# Altium footprint library Cypress.PcbLib: 1 footprints
Each footprint in its own frame and in the unit in brackets; x right, y up, seen from the top. Pads: shape width x height; smd on the part's side, far side on the other; paste and mask are expansions set on the pad; w line width, h text height; cw(c..) or ccw(c..) is an arc to the next point about the centre after c.
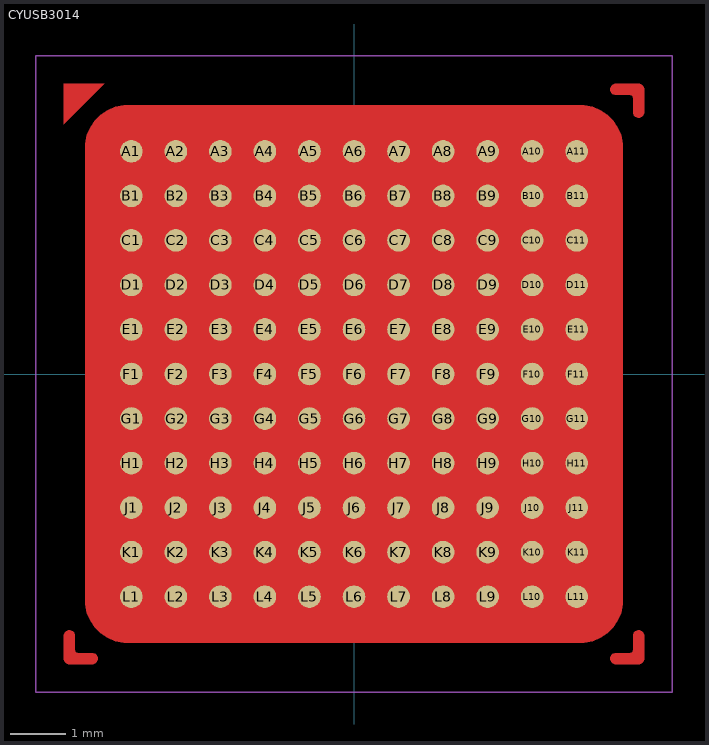
[diagram p0: the footprint, top view; thin cyan lines are the x and y axes]

## CYUSB3014 [mil]
height 47.24
pads (121):
  round 16 smd mask+1.5: A1(-157.48,157.48) A2(-125.98,157.48) A3(-94.49,157.48) A4(-62.99,157.48) A5(-31.5,157.48) A6(0,157.48) A7(31.5,157.48) A8(62.99,157.48) A9(94.49,157.48) A10(125.98,157.48) A11(157.48,157.48) B1(-157.48,125.98) B2(-125.98,125.98) B3(-94.49,125.98) B4(-62.99,125.98) B5(-31.5,125.98) B6(0,125.98) B7(31.5,125.98) B8(62.99,125.98) B9(94.49,125.98) B10(125.98,125.98) B11(157.48,125.98) C1(-157.48,94.49) C2(-125.98,94.49) C3(-94.49,94.49) C4(-62.99,94.49) C5(-31.5,94.49) C6(0,94.49) C7(31.5,94.49) C8(62.99,94.49) C9(94.49,94.49) C10(125.98,94.49) C11(157.48,94.49) D1(-157.48,62.99) D2(-125.98,62.99) D3(-94.49,62.99) D4(-62.99,62.99) D5(-31.5,62.99) D6(0,62.99) D7(31.5,62.99) D8(62.99,62.99) D9(94.49,62.99) D10(125.98,62.99) D11(157.48,62.99) E1(-157.48,31.5) E2(-125.98,31.5) E3(-94.49,31.5) E4(-62.99,31.5) E5(-31.5,31.5) E6(0,31.5) E7(31.5,31.5) E8(62.99,31.5) E9(94.49,31.5) E10(125.98,31.5) E11(157.48,31.5) F1(-157.48,0) F2(-125.98,0) F3(-94.49,0) F4(-62.99,0) F5(-31.5,0) F6(0,0) F7(31.5,0) F8(62.99,0) F9(94.49,0) F10(125.98,0) F11(157.48,0) G1(-157.48,-31.5) G2(-125.98,-31.5) G3(-94.49,-31.5) G4(-62.99,-31.5) G5(-31.5,-31.5) G6(0,-31.5) G7(31.5,-31.5) G8(62.99,-31.5) G9(94.49,-31.5) G10(125.98,-31.5) G11(157.48,-31.5) H1(-157.48,-62.99) H2(-125.98,-62.99) H3(-94.49,-62.99) H4(-62.99,-62.99) H5(-31.5,-62.99) H6(0,-62.99) H7(31.5,-62.99) H8(62.99,-62.99) H9(94.49,-62.99) H10(125.98,-62.99) H11(157.48,-62.99) J1(-157.48,-94.49) J2(-125.98,-94.49) J3(-94.49,-94.49) J4(-62.99,-94.49) J5(-31.5,-94.49) J6(0,-94.49) J7(31.5,-94.49) J8(62.99,-94.49) J9(94.49,-94.49) J10(125.98,-94.49) J11(157.48,-94.49) K1(-157.48,-125.98) K2(-125.98,-125.98) K3(-94.49,-125.98) K4(-62.99,-125.98) K5(-31.5,-125.98) K6(0,-125.98) K7(31.5,-125.98) K8(62.99,-125.98) K9(94.49,-125.98) K10(125.98,-125.98) K11(157.48,-125.98) L1(-157.48,-157.48) L2(-125.98,-157.48) L3(-94.49,-157.48) L4(-62.99,-157.48) L5(-31.5,-157.48) L6(0,-157.48) L7(31.5,-157.48) L8(62.99,-157.48) L9(94.49,-157.48) L10(125.98,-157.48) L11(157.48,-157.48)
Top Layer:
  pour cut-out: -160,190 -162.95,190 -168.75,188.85 -174.21,186.59 -179.12,183.3 -183.3,179.12 -186.59,174.21 -188.85,168.75 -190,162.95 -190,160 -190,-160 -190,-162.95 -188.85,-168.75 -186.59,-174.21 -183.3,-179.12 -179.12,-183.3 -174.21,-186.59 -168.75,-188.85 -162.95,-190 -160,-190 160,-190 162.95,-190 168.75,-188.85 174.21,-186.59 179.12,-183.3 183.3,-179.12 186.59,-174.21 188.85,-168.75 190,-162.95 190,-160 190,160 190,162.95 188.85,168.75 186.59,174.21 183.3,179.12 179.12,183.3 174.21,186.59 168.75,188.85 162.95,190 160,190
  region: 197.31,185.31 197.31,184.52 197.92,183.05 199.05,181.92 200.52,181.31 201.31,181.31 202.11,181.31 203.58,181.92 204.71,183.05 205.31,184.52 205.31,185.31 205.31,201.31 205.31,202.11 204.71,203.58 203.58,204.71 202.11,205.31 201.31,205.31 185.31,205.31 184.52,205.31 183.05,204.71 181.92,203.58 181.31,202.11 181.31,201.31 181.31,200.52 181.92,199.05 183.05,197.92 184.52,197.31 185.31,197.31 195.31,197.31 195.7,197.28 196.43,196.98 196.98,196.43 197.28,195.71 197.31,195.31
  region: -197.31,-185.32 -197.31,-184.52 -197.92,-183.05 -199.05,-181.92 -200.52,-181.32 -201.31,-181.32 -202.11,-181.32 -203.58,-181.92 -204.71,-183.05 -205.31,-184.52 -205.31,-185.32 -205.31,-201.32 -205.31,-202.11 -204.71,-203.58 -203.58,-204.71 -202.11,-205.32 -201.31,-205.32 -185.31,-205.32 -184.52,-205.32 -183.05,-204.71 -181.92,-203.58 -181.31,-202.11 -181.31,-201.32 -181.31,-200.52 -181.92,-199.05 -183.05,-197.92 -184.52,-197.32 -185.31,-197.32 -195.31,-197.32 -195.7,-197.28 -196.43,-196.98 -196.98,-196.43 -197.28,-195.71 -197.31,-195.32
  region: 185.32,-197.31 184.52,-197.31 183.05,-197.92 181.92,-199.05 181.32,-200.52 181.32,-201.31 181.32,-202.11 181.92,-203.58 183.05,-204.71 184.52,-205.31 185.32,-205.31 201.32,-205.31 202.11,-205.31 203.58,-204.71 204.71,-203.58 205.32,-202.11 205.32,-201.31 205.32,-185.31 205.32,-184.52 204.71,-183.05 203.58,-181.92 202.11,-181.31 201.32,-181.31 200.52,-181.31 199.05,-181.92 197.92,-183.05 197.32,-184.52 197.32,-185.31 197.32,-195.31 197.28,-195.7 196.98,-196.43 196.43,-196.98 195.71,-197.28 195.32,-197.31
  region: -205.31,205.31 -205.31,176.77 -176.77,205.32
Top Designator:
  text ".Designator" at -127.64,-12.5 h35
Top Courtyard:
  lines w1: -225,-225 -225,225 225,225
Top Component Outline:
  lines w1: -225,-225 225,-225 225,225
3D body: height 43.31, standoff 7.87, extent -196.85,-196.85 196.85,196.85
3D body: height 16.84, standoff -2.84, extent -167.28,147.75 -147.68,167.33
3D body: height 16.84, standoff -2.84, extent -167.28,116.25 -147.68,135.83
3D body: height 16.84, standoff -2.84, extent -167.28,84.75 -147.68,104.34
3D body: height 16.84, standoff -2.84, extent -167.28,53.26 -147.68,72.84
3D body: height 16.84, standoff -2.84, extent -167.28,-72.73 -147.68,-53.14
3D body: height 16.84, standoff -2.84, extent -167.28,-41.23 -147.68,-21.65
3D body: height 16.84, standoff -2.84, extent -167.28,-9.73 -147.68,9.85
3D body: height 16.84, standoff -2.84, extent -167.28,21.76 -147.68,41.35
3D body: height 16.84, standoff -2.84, extent -167.28,-167.21 -147.68,-147.63
3D body: height 16.84, standoff -2.84, extent -167.28,-135.72 -147.68,-116.13
3D body: height 16.84, standoff -2.84, extent -167.28,-104.22 -147.68,-84.64
3D body: height 16.84, standoff -2.84, extent -135.79,147.75 -116.19,167.33
3D body: height 16.84, standoff -2.84, extent -135.79,116.25 -116.19,135.83
3D body: height 16.84, standoff -2.84, extent -135.79,84.75 -116.19,104.34
3D body: height 16.84, standoff -2.84, extent -135.79,53.26 -116.19,72.84
3D body: height 16.84, standoff -2.84, extent -135.79,-72.73 -116.19,-53.14
3D body: height 16.84, standoff -2.84, extent -135.79,-41.23 -116.19,-21.65
3D body: height 16.84, standoff -2.84, extent -135.79,-9.73 -116.19,9.85
3D body: height 16.84, standoff -2.84, extent -135.79,21.76 -116.19,41.35
3D body: height 16.84, standoff -2.84, extent -135.79,-167.21 -116.19,-147.63
3D body: height 16.84, standoff -2.84, extent -135.79,-135.72 -116.19,-116.13
3D body: height 16.84, standoff -2.84, extent -135.79,-104.22 -116.19,-84.64
3D body: height 16.84, standoff -2.84, extent -104.29,147.75 -84.69,167.33
3D body: height 16.84, standoff -2.84, extent -104.29,116.25 -84.69,135.83
3D body: height 16.84, standoff -2.84, extent -104.29,84.75 -84.69,104.34
3D body: height 16.84, standoff -2.84, extent -104.29,53.26 -84.69,72.84
3D body: height 16.84, standoff -2.84, extent -104.29,-72.73 -84.69,-53.14
3D body: height 16.84, standoff -2.84, extent -104.29,-41.23 -84.69,-21.65
3D body: height 16.84, standoff -2.84, extent -104.29,-9.73 -84.69,9.85
3D body: height 16.84, standoff -2.84, extent -104.29,21.76 -84.69,41.35
3D body: height 16.84, standoff -2.84, extent -104.29,-167.21 -84.69,-147.63
3D body: height 16.84, standoff -2.84, extent -104.29,-135.72 -84.69,-116.13
3D body: height 16.84, standoff -2.84, extent -104.29,-104.22 -84.69,-84.64
3D body: height 16.84, standoff -2.84, extent -72.8,147.75 -53.19,167.33
3D body: height 16.84, standoff -2.84, extent -72.8,116.25 -53.19,135.83
3D body: height 16.84, standoff -2.84, extent -72.8,84.75 -53.19,104.34
3D body: height 16.84, standoff -2.84, extent -72.8,53.26 -53.19,72.84
3D body: height 16.84, standoff -2.84, extent -72.8,-72.73 -53.19,-53.14
3D body: height 16.84, standoff -2.84, extent -72.8,-41.23 -53.19,-21.65
3D body: height 16.84, standoff -2.84, extent -72.8,-9.73 -53.19,9.85
3D body: height 16.84, standoff -2.84, extent -72.8,21.76 -53.19,41.35
3D body: height 16.84, standoff -2.84, extent -72.8,-167.21 -53.19,-147.63
3D body: height 16.84, standoff -2.84, extent -72.8,-135.72 -53.19,-116.13
3D body: height 16.84, standoff -2.84, extent -72.8,-104.22 -53.19,-84.64
3D body: height 16.84, standoff -2.84, extent -41.3,147.75 -21.7,167.33
3D body: height 16.84, standoff -2.84, extent -41.3,116.25 -21.7,135.83
3D body: height 16.84, standoff -2.84, extent -41.3,84.75 -21.7,104.34
3D body: height 16.84, standoff -2.84, extent -41.3,53.26 -21.7,72.84
3D body: height 16.84, standoff -2.84, extent -41.3,-72.73 -21.7,-53.14
3D body: height 16.84, standoff -2.84, extent -41.3,-41.23 -21.7,-21.65
3D body: height 16.84, standoff -2.84, extent -41.3,-9.73 -21.7,9.85
3D body: height 16.84, standoff -2.84, extent -41.3,21.76 -21.7,41.35
3D body: height 16.84, standoff -2.84, extent -41.3,-167.21 -21.7,-147.63
3D body: height 16.84, standoff -2.84, extent -41.3,-135.72 -21.7,-116.13
3D body: height 16.84, standoff -2.84, extent -41.3,-104.22 -21.7,-84.64
3D body: height 16.84, standoff -2.84, extent -9.8,147.75 9.8,167.33
3D body: height 16.84, standoff -2.84, extent -9.8,116.25 9.8,135.83
3D body: height 16.84, standoff -2.84, extent -9.8,84.75 9.8,104.34
3D body: height 16.84, standoff -2.84, extent -9.8,53.26 9.8,72.84
3D body: height 16.84, standoff -2.84, extent -9.8,-72.73 9.8,-53.14
3D body: height 16.84, standoff -2.84, extent -9.8,-41.23 9.8,-21.65
3D body: height 16.84, standoff -2.84, extent -9.8,-9.73 9.8,9.85
3D body: height 16.84, standoff -2.84, extent -9.8,21.76 9.8,41.35
3D body: height 16.84, standoff -2.84, extent -9.8,-167.21 9.8,-147.63
3D body: height 16.84, standoff -2.84, extent -9.8,-135.72 9.8,-116.13
3D body: height 16.84, standoff -2.84, extent -9.8,-104.22 9.8,-84.64
3D body: height 16.84, standoff -2.84, extent 21.69,147.75 41.3,167.33
3D body: height 16.84, standoff -2.84, extent 21.69,116.25 41.3,135.83
3D body: height 16.84, standoff -2.84, extent 21.69,84.75 41.3,104.34
3D body: height 16.84, standoff -2.84, extent 21.69,53.26 41.3,72.84
3D body: height 16.84, standoff -2.84, extent 21.69,-72.73 41.3,-53.14
3D body: height 16.84, standoff -2.84, extent 21.69,-41.23 41.3,-21.65
3D body: height 16.84, standoff -2.84, extent 21.69,-9.73 41.3,9.85
3D body: height 16.84, standoff -2.84, extent 21.69,21.76 41.3,41.35
3D body: height 16.84, standoff -2.84, extent 21.69,-167.21 41.3,-147.63
3D body: height 16.84, standoff -2.84, extent 21.69,-135.72 41.3,-116.13
3D body: height 16.84, standoff -2.84, extent 21.69,-104.22 41.3,-84.64
3D body: height 16.84, standoff -2.84, extent 53.19,147.75 72.79,167.33
3D body: height 16.84, standoff -2.84, extent 53.19,116.25 72.79,135.83
3D body: height 16.84, standoff -2.84, extent 53.19,84.75 72.79,104.34
3D body: height 16.84, standoff -2.84, extent 53.19,53.26 72.79,72.84
3D body: height 16.84, standoff -2.84, extent 53.19,-72.73 72.79,-53.14
3D body: height 16.84, standoff -2.84, extent 53.19,-41.23 72.79,-21.65
3D body: height 16.84, standoff -2.84, extent 53.19,-9.73 72.79,9.85
3D body: height 16.84, standoff -2.84, extent 53.19,21.76 72.79,41.35
3D body: height 16.84, standoff -2.84, extent 53.19,-167.21 72.79,-147.63
3D body: height 16.84, standoff -2.84, extent 53.19,-135.72 72.79,-116.13
3D body: height 16.84, standoff -2.84, extent 53.19,-104.22 72.79,-84.64
3D body: height 16.84, standoff -2.84, extent 84.68,147.75 104.29,167.33
3D body: height 16.84, standoff -2.84, extent 84.68,116.25 104.29,135.83
3D body: height 16.84, standoff -2.84, extent 84.68,84.75 104.29,104.34
3D body: height 16.84, standoff -2.84, extent 84.68,53.26 104.29,72.84
3D body: height 16.84, standoff -2.84, extent 84.68,-72.73 104.29,-53.14
3D body: height 16.84, standoff -2.84, extent 84.68,-41.23 104.29,-21.65
3D body: height 16.84, standoff -2.84, extent 84.68,-9.73 104.29,9.85
3D body: height 16.84, standoff -2.84, extent 84.68,21.76 104.29,41.35
3D body: height 16.84, standoff -2.84, extent 84.68,-167.21 104.29,-147.63
3D body: height 16.84, standoff -2.84, extent 84.68,-135.72 104.29,-116.13
3D body: height 16.84, standoff -2.84, extent 84.68,-104.22 104.29,-84.64
3D body: height 16.84, standoff -2.84, extent 116.18,147.75 135.78,167.33
3D body: height 16.84, standoff -2.84, extent 116.18,116.25 135.78,135.83
3D body: height 16.84, standoff -2.84, extent 116.18,84.75 135.78,104.34
3D body: height 16.84, standoff -2.84, extent 116.18,53.26 135.78,72.84
3D body: height 16.84, standoff -2.84, extent 116.18,-72.73 135.78,-53.14
3D body: height 16.84, standoff -2.84, extent 116.18,-41.23 135.78,-21.65
3D body: height 16.84, standoff -2.84, extent 116.18,-9.73 135.78,9.85
3D body: height 16.84, standoff -2.84, extent 116.18,21.76 135.78,41.35
3D body: height 16.84, standoff -2.84, extent 116.18,-167.21 135.78,-147.63
3D body: height 16.84, standoff -2.84, extent 116.18,-135.72 135.78,-116.13
3D body: height 16.84, standoff -2.84, extent 116.18,-104.22 135.78,-84.64
3D body: height 16.84, standoff -2.84, extent 147.68,147.75 167.28,167.33
3D body: height 16.84, standoff -2.84, extent 147.68,116.25 167.28,135.83
3D body: height 16.84, standoff -2.84, extent 147.68,84.75 167.28,104.34
3D body: height 16.84, standoff -2.84, extent 147.68,53.26 167.28,72.84
3D body: height 16.84, standoff -2.84, extent 147.68,-72.73 167.28,-53.14
3D body: height 16.84, standoff -2.84, extent 147.68,-41.23 167.28,-21.65
3D body: height 16.84, standoff -2.84, extent 147.68,-9.73 167.28,9.85
3D body: height 16.84, standoff -2.84, extent 147.68,21.76 167.28,41.35
3D body: height 16.84, standoff -2.84, extent 147.68,-167.21 167.28,-147.63
3D body: height 16.84, standoff -2.84, extent 147.68,-135.72 167.28,-116.13
3D body: height 16.84, standoff -2.84, extent 147.68,-104.22 167.28,-84.64